# Altium footprint library PHOENIX_1814948.PcbLib: 1 footprints
Each footprint in its own frame and in the unit in brackets; x right, y up, seen from the top. Pads: shape width x height; smd on the part's side, far side on the other; paste and mask are expansions set on the pad; w line width, h text height; cw(c..) or ccw(c..) is an arc to the next point about the centre after c.
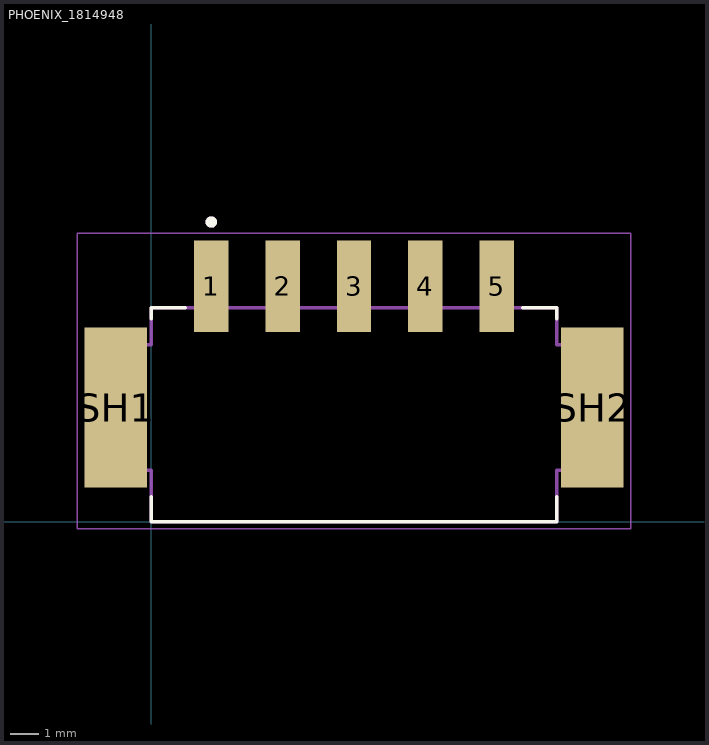
[diagram p0: the footprint, top view; thin cyan lines are the x and y axes]

## PHOENIX_1814948 [mm]
pads (7):
  rect 1.2x3.2 smd: 1(2.1,8.25) 2(4.6,8.25) 3(7.1,8.25) 4(9.6,8.25) 5(12.1,8.25)
  rect 2.2x5.6 smd: SH1(-1.25,4) SH2(15.45,4)
Top Overlay:
  circle w0.2: c2.1,10.5 r0.1
  lines w0.127: 0,0.88 0,0 14.2,0 14.2,0.88 ; 0,7.12 0,7.5 1.18,7.5 ; 13.02,7.5 14.2,7.5 14.2,7.12
Mechanical 13:
  circle w0.2: c2.1,10.5 r0.1
  lines w0.127: -1.05,1.8 0,1.8 0,0 14.2,0 14.2,1.8 15.25,1.8 15.25,6.2 14.2,6.2 14.2,7.5 0,7.5 0,6.2 -1.05,6.2 -1.05,1.8
Mechanical 15:
  lines w0.05: -2.6,-0.25 16.8,-0.25 16.8,10.1 -2.6,10.1 -2.6,-0.25